# EAGLE library part AT28C64B-15PU (library AT28C64B-15PU)
AT28C64B-15PU, Parallel EEPROM Memory 64kbit, Parallel, 150ns 4.5 5.5 V, 28-Pin PDIP Source: Datasheet <http://www.atmel.com/images/doc0270.pdf>
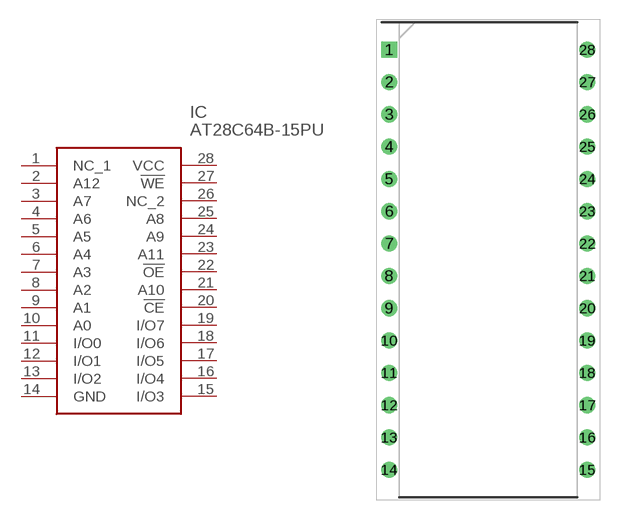
[diagram p0: symbol with the pads of DIP1556W56P254L3702H483Q28N; footprint DIP1556W56P254L3702H483Q28N]

Designator prefix IC

## AT28C64B-15PU (Description: AT28C64B-15PU, Parallel EEPROM Memory 64kbit, Parallel, 150ns 4.5 5.5 V, 28-Pin PDIP; Height: 4.826mm; Manufacturer_Name: Microchip; Manufacturer_Part_Number: AT28C64B-15PU; Mouser_Part_Number: 556-AT28C64B15PU; Mouser_Price-Stock: https://www.mouser.co.uk/ProductDetail/Microchip-Technology/AT28C64B-15PU?qs=2VKgqYuc3OvipbcAuBcLow%3D%3D)  [DIP1556W56P254L3702H483Q28N]
1  NC_1
2  A12
3  A7
4  A6
5  A5
6  A4
7  A3
8  A2
9  A1
10  A0
11  I/O0
12  I/O1
13  I/O2
14  GND
15  I/O3
16  I/O4
17  I/O5
18  I/O6
19  I/O7
20  !CE
21  A10
22  !OE
23  A11
24  A9
25  A8
26  NC_2
27  !WE
28  VCC

## Footprint DIP1556W56P254L3702H483Q28N (pad centres in mm)
PDIP-28P6
drill 0.759 pad 1.159 square: 1 -7.779,16.51
drill 0.759 pad 1.159: 2 -7.779,13.97; 3 -7.779,11.43; 4 -7.779,8.89; 5 -7.779,6.35; 6 -7.779,3.81; 7 -7.779,1.27; 8 -7.779,-1.27; 9 -7.779,-3.81; 10 -7.779,-6.35; 11 -7.779,-8.89; 12 -7.779,-11.43; 13 -7.779,-13.97; 14 -7.779,-16.51; 15 7.779,-16.51; 16 7.779,-13.97; 17 7.779,-11.43; 18 7.779,-8.89; 19 7.779,-6.35; 20 7.779,-3.81; 21 7.779,-1.27; 22 7.779,1.27; 23 7.779,3.81; 24 7.779,6.35; 25 7.779,8.89; 26 7.779,11.43; 27 7.779,13.97; 28 7.779,16.51